# Altium footprint library FootPrintLib_6.PcbLib: 588 footprints (part 37 of 37)
Each footprint in its own frame and in the unit in brackets; x right, y up, seen from the top. Pads: shape width x height; smd on the part's side, far side on the other; paste and mask are expansions set on the pad; w line width, h text height; cw(c..) or ccw(c..) is an arc to the next point about the centre after c.
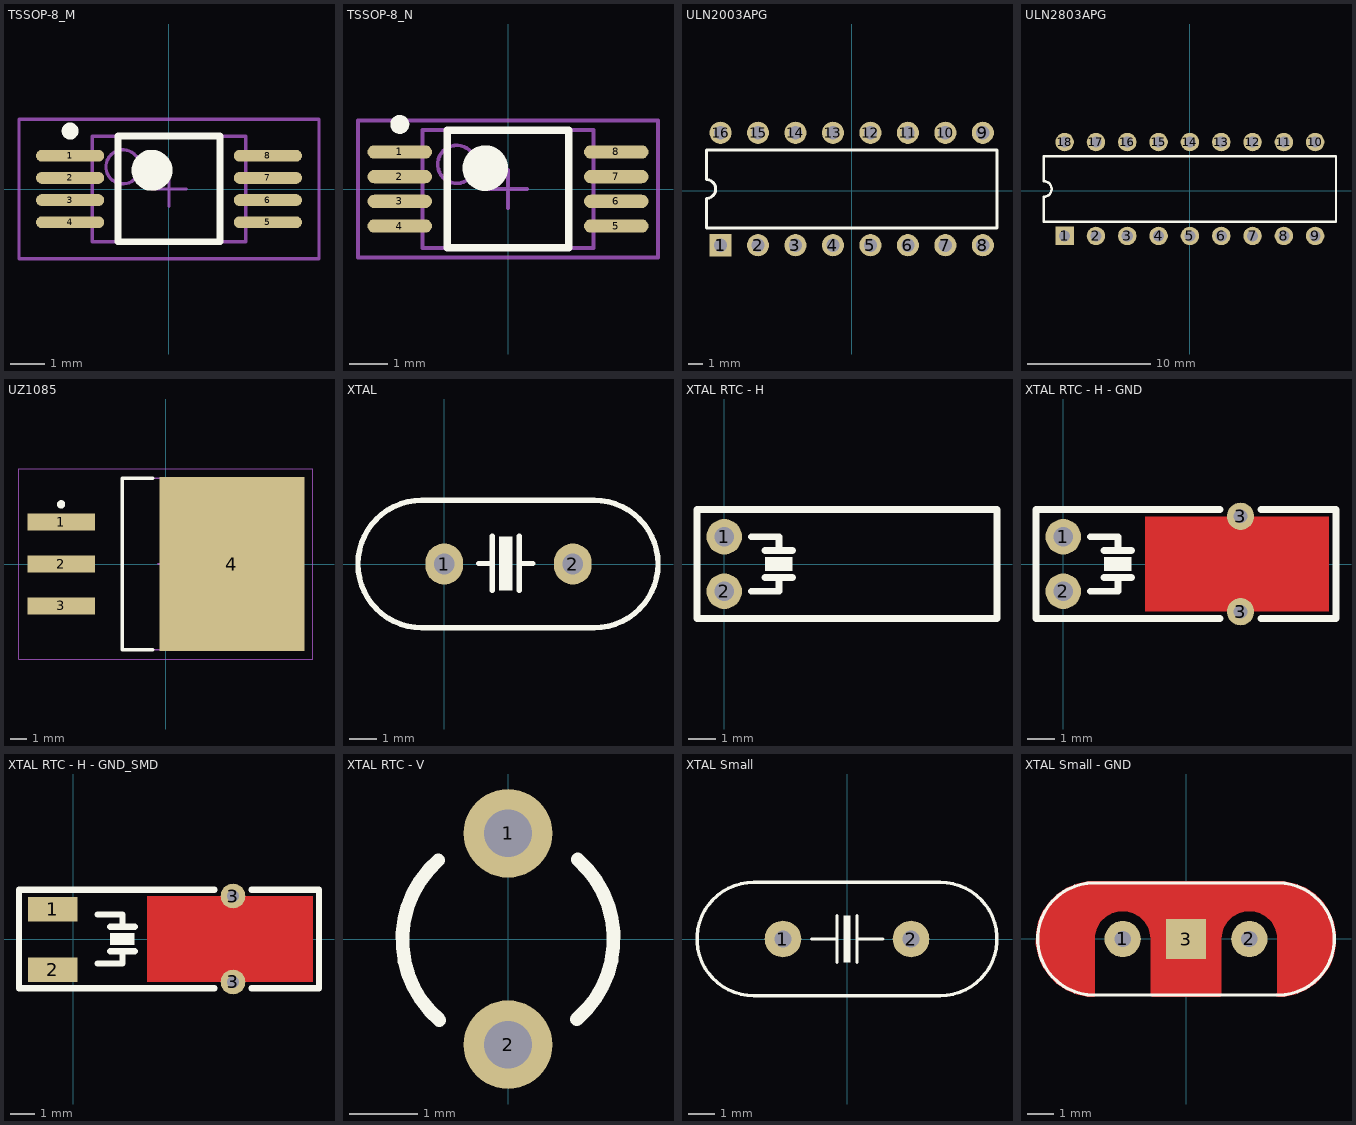
[diagram p36: the footprints below, top view; thin cyan lines are the x and y axes]

## TSSOP-8_M [mm] "TSOP, 8-Leads, Body 3x4.4mm, Pitch 0.65mm, IPC Low Density"
height 1.2
pads (8):
  oval 2x0.35 smd: 1(-2.9,0.975) 2(-2.9,0.325) 3(-2.9,-0.325) 4(-2.9,-0.975) 5(2.9,-0.975) 6(2.9,-0.325) 7(2.9,0.325) 8(2.9,0.975)
Top Overlay:
  circle w0.25: c-2.9,1.7 r0.125
  circle w0.6: c-0.5,0.55 r0.3
  lines w0.2: -1.5,-1.55 -1.5,1.55 1.5,1.55 1.5,-1.55 -1.5,-1.55
Mechanical 13:
  circle w0.1: c-1.35,0.65 r0.5
  lines w0.1: -2.25,-1.55 -2.25,1.55 2.25,1.55 2.25,-1.55 -2.25,-1.55
Mechanical 15:
  lines w0.1: -0.5,0 0.5,0 ; 0,-0.5 0,0.5 ; -4.4,-2.05 -4.4,2.05 4.4,2.05 4.4,-2.05 -4.4,-2.05
3D body: height 1.2, standoff 0, extent -2.25,-1.55 2.25,1.55

## TSSOP-8_N [mm] "TSOP, 8-Leads, Body 3x4.4mm, Pitch 0.65mm, IPC Medium Density"
height 1.2
pads (8):
  oval 1.7x0.35 smd: 1(-2.85,0.975) 2(-2.85,0.325) 3(-2.85,-0.325) 4(-2.85,-0.975) 5(2.85,-0.975) 6(2.85,-0.325) 7(2.85,0.325) 8(2.85,0.975)
Top Overlay:
  circle w0.6: c-0.6,0.55 r0.3
  circle w0.25: c-2.85,1.7 r0.125
  lines w0.2: -1.6,-1.55 1.6,-1.55 1.6,1.55 -1.6,1.55 -1.6,-1.55
Mechanical 13:
  circle w0.1: c-1.35,0.65 r0.5
  lines w0.1: -2.25,-1.55 2.25,-1.55 2.25,1.55 -2.25,1.55 -2.25,-1.55
Mechanical 15:
  lines w0.1: -0.5,0 0.5,0 ; 0,-0.5 0,0.5 ; -3.95,-1.8 3.95,-1.8 3.95,1.8 -3.95,1.8 -3.95,-1.8
3D body: height 1.2, standoff 0, extent -2.25,-1.55 2.25,1.55

## ULN2003APG [mm]
pads (16):
  rect 1.5x1.5 hole 0.9: 1(-8.89,-3.683)
  round 1.5 hole 0.9: 2(-6.35,-3.683) 3(-3.81,-3.683) 4(-1.27,-3.683) 5(1.27,-3.683) 6(3.81,-3.683) 7(6.35,-3.683) 8(8.89,-3.683) 9(8.89,3.937) 10(6.35,3.937) 11(3.81,3.937) 12(1.27,3.937) 13(-1.27,3.937) 14(-3.81,3.937) 15(-6.35,3.937) 16(-8.89,3.937)
Top Overlay:
  lines w0.2: -9.85,-2.523 9.85,-2.523 9.85,2.777 -9.85,2.777 -9.85,0.762 cw(c-9.85,0.127) -9.85,-0.508 -9.85,-2.523

## ULN2803APG [mm]
pads (18):
  rect 1.5x1.5 hole 0.9: 1(-10.16,-3.683)
  round 1.5 hole 0.9: 2(-7.62,-3.683) 3(-5.08,-3.683) 4(-2.54,-3.683) 5(0,-3.683) 6(2.54,-3.683) 7(5.08,-3.683) 8(7.62,-3.683) 9(10.16,-3.683) 10(10.16,3.937) 11(7.62,3.937) 12(5.08,3.937) 13(2.54,3.937) 14(0,3.937) 15(-2.54,3.937) 16(-5.08,3.937) 17(-7.62,3.937) 18(-10.16,3.937)
Top Overlay:
  lines w0.2: -11.85,-2.523 11.85,-2.523 11.85,2.777 -11.85,2.777 -11.85,0.762 cw(c-11.85,0.127) -11.85,-0.508 -11.85,-2.523

## UZ1085 [mm]
pads (4):
  rect 4.1x1.05 smd: 1(-6.35,2.54) 2(-6.35,0) 3(-6.35,-2.54)
  rect 8.8x10.55 smd: 4(4,0)
Top Overlay:
  circle w0.25: c-6.35,3.615 r0.125
  lines w0.2: -0.8,-5.2 -2.65,-5.2 -2.65,5.2 -0.8,5.2
Mechanical 13:
  lines w0.1: -2.65,-5.2 6.7,-5.2 6.7,5.2 -2.65,5.2 -2.65,-5.2
Mechanical 15:
  lines w0.05: -8.9,-5.775 8.9,-5.775 8.9,5.775 -8.9,5.775 -8.9,-5.775
  lines w0.1: -0.5,0 0.5,0 ; 0,-0.5 0,0.5
3D body: height 4.6, standoff 0.03, extent -2.65,-5.2 6.7,5.2

## XTAL [mil]
height 590.55
pads (2):
  oval 55x60 hole 30: 1(0,0) 2(187.4,0)
Top Overlay:
  rectangle: 79.53,-38.58 99.21,40.16
  lines w7.87: 50,0.79 69.69,0.79 ; 69.69,-38.58 69.69,40.16 ; 109.06,-38.58 109.06,40.16 ; 109.06,0.79 128.74,0.79 ; -32.68,-92.91 cw(c-32.68,0) -32.68,92.91 218.5,92.91 cw(c218.5,0) 218.5,-92.91 -32.68,-92.91
3D body "Part5.STEP": height 514.25, standoff -94.02, extent -130.71,-93.7 316.14,95.28

## XTAL RTC - H [mm]
pads (2):
  round 1.3 hole 0.7: 1(0,1) 2(0,-1)
Top Overlay:
  rectangle: 1.5,-0.25 2.5,0.25
  lines w0.254: 1,-1 2,-1 2,-0.5 ; 1,1 2,1 2,0.5 ; 1.5,-0.5 2.5,-0.5 ; 1.5,0.5 2.5,0.5 ; -1,-2 10,-2 10,2 -1,2 -1,-2
3D body: height 1.75, standoff 1.25, extent -0.247,-1.249 0.25,-0.751
3D body: height 1.75, standoff 1.25, extent -0.247,0.751 0.25,1.249
3D body: height 1.5, standoff -1.5, extent -0.248,-1.249 0.25,-0.75
3D body: height 1.5, standoff -1.5, extent -0.248,0.751 0.25,1.25
3D body: height 1.75, standoff 1.25, extent 0,0.751 2.5,1.249
3D body: height 1.75, standoff 1.25, extent 0,-1.248 2.5,-0.75
3D body: height 3, standoff 0, extent 2.5,-1.488 9.5,1.5

## XTAL RTC - H - GND [mm]
pads (4):
  round 1.3 hole 0.7: 1(0,1) 2(0,-1)
  round 1 hole 0.5: 3(6.5,-1.75) 3(6.5,1.75)
Top Layer:
  rectangle: 3,-1.75 9.75,1.75
Top Overlay:
  rectangle: 1.5,-0.25 2.5,0.25
  lines w0.254: 1,-1 2,-1 2,-0.5 ; 1,1 2,1 2,0.5 ; 1.5,-0.5 2.5,-0.5 ; 1.5,0.5 2.5,0.5 ; 5.75,-2 -1,-2 -1,2 5.75,2 ; 7.25,-2 10,-2 10,2 7.25,2
3D body: height 3, standoff 0, extent 2.5,-1.487 9.5,1.501
3D body: height 1.75, standoff 1.25, extent 0,-1.247 2.5,-0.749
3D body: height 1.75, standoff 1.25, extent 0,0.752 2.5,1.25
3D body: height 1.5, standoff -1.5, extent -0.248,0.752 0.25,1.251
3D body: height 1.5, standoff -1.5, extent -0.248,-1.248 0.25,-0.749
3D body: height 1.75, standoff 1.25, extent -0.247,0.752 0.25,1.25
3D body: height 1.75, standoff 1.25, extent -0.247,-1.248 0.25,-0.75

## XTAL RTC - H - GND_SMD [mm]
pads (4):
  rect 2x1 smd: 1(-0.838,1.219) 2(-0.838,-1.245)
  round 1 hole 0.5: 3(6.5,-1.75) 3(6.5,1.75)
Top Layer:
  rectangle: 3,-1.75 9.75,1.75
Top Overlay:
  rectangle: 1.5,-0.25 2.5,0.25
  lines w0.254: 1,-1 2,-1 2,-0.5 ; 1,1 2,1 2,0.5 ; 1.5,-0.5 2.5,-0.5 ; 1.5,0.5 2.5,0.5 ; 5.75,-2 -2.21,-2 -2.21,2 5.75,2 ; 7.25,-2 10,-2 10,2 7.25,2
3D body "User Library-CMR200TB.STEP": height 2, standoff 0, extent -0.803,-1.527 8.174,1.528

## XTAL RTC - V [mm]
pads (2):
  round 1.3 hole 0.7: 1(0,1.55) 2(0,-1.55)
Top Overlay:
  lines w0.2: -1.022,1.155 ccw(c0,-0.01) -1.006,-1.189 ; 1.006,-1.179 ccw(c0,0) 1.022,1.165
3D body "Crystal TH.STEP": height 9.04, standoff -1.74, extent -1.6,-1.725 1.6,1.725

## XTAL Small [mil]
pads (2):
  round 55 hole 25: 1(-96.06,0) 2(96.06,0)
Top Overlay:
  rectangle: -5,-35 5,35
  lines w5: -53,0 -15,0 ; -15,-35 -15,35 ; 15,-35 15,35 ; 15,0 54,0 ; -140,-85 cw(c-140,0) -140,85 140,85 cw(c140,0) 140,-85 -140,-85
3D body "Crystal-3.8mm.STEP": height 142.13, standoff -76.77, extent -226.37,-88.58 226.38,88.59

## XTAL Small - GND [mil]
pads (3):
  round 55 hole 25: 1(-96.06,0) 2(96.06,0)
  rect 60x60 smd: 3(0,0)
Top Layer:
  region: -140.91,-87.51 -140.8,-87.51 -140.57,-87.51 -140.34,-87.51 -140.11,-87.52 -140,-87.52 -139.5,-87.52 -138.58,-87.13 -137.87,-86.42 -137.49,-85.5 -137.49,-85 -137.49,-84.7 -137.63,-84.11 -137.91,-83.58 -138.3,-83.12 -138.55,-82.95 -138.55,0 -138.18,5.55 -135.31,16.26 -129.77,25.86 -121.93,33.71 -112.32,39.25 -101.61,42.12 -90.52,42.12 -79.8,39.25 -70.2,33.71 -62.36,25.86 -56.81,16.26 -53.94,5.55 -53.58,0 -53.58,-84.88 -53.58,-85.38 -53.2,-86.31 -52.49,-87.01 -51.56,-87.4 -51.06,-87.4 51.06,-87.4 51.56,-87.4 52.49,-87.01 53.2,-86.31 53.58,-85.38 53.58,-84.88 53.58,0 53.94,5.55 56.81,16.26 62.36,25.86 70.2,33.71 79.8,39.25 90.52,42.12 101.61,42.12 112.32,39.25 121.93,33.71 129.77,25.86 135.31,16.26 138.18,5.55 138.55,0 138.55,-82.95 137.88,-83.42 137.35,-84.98 137.85,-86.54 139.18,-87.52 140,-87.52 140.11,-87.52 140.34,-87.51 140.57,-87.51 140.8,-87.51 140.91,-87.51 140.96,-87.51 141.05,-87.52 141.14,-87.51 141.23,-87.51 141.28,-87.51 149.82,-87.38 166.52,-83.84 182.23,-77.13 196.34,-67.51 208.33,-55.35 217.74,-41.1 224.21,-25.29 227.51,-8.54 227.51,0 227.51,8.62 224.15,25.53 217.55,41.45 207.98,55.79 195.79,67.98 181.45,77.55 165.53,84.15 148.62,87.51 140,87.52 139.86,87.52 139.57,87.48 139.3,87.42 139.03,87.32 138.9,87.26 138.77,87.32 138.5,87.42 138.22,87.48 137.94,87.52 137.8,87.52 -137.8,87.52 -137.94,87.52 -138.22,87.48 -138.5,87.42 -138.77,87.32 -138.9,87.26 -139.03,87.32 -139.3,87.42 -139.57,87.48 -139.86,87.52 -140,87.52 -148.58,87.52 -165.41,84.18 -181.27,77.65 -195.57,68.15 -207.74,56.06 -217.34,41.84 -224,26.03 -227.45,9.22 -227.58,-7.94 -224.37,-24.79 -217.95,-40.71 -208.56,-55.07 -196.56,-67.33 -182.41,-77.03 -166.64,-83.8 -149.86,-87.38 -141.28,-87.51 -141.23,-87.51 -141.14,-87.51 -141.05,-87.52 -140.96,-87.51
Top Overlay:
  lines w5: -140,-85 cw(c-140,0) -140,85 140,85 cw(c140,0) 140,-85 -140,-85
3D body "Crystal-3.8mm.STEP": height 142.13, standoff -76.77, extent -226.37,-88.58 226.38,88.59